# Altium integrated library PWM_Controllers.IntLib: 1 symbol
Pins are listed as number, name and electrical type; pins without a type are passive.

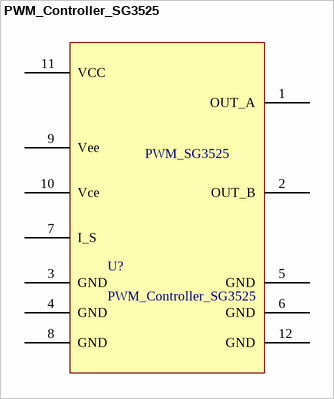
[diagram p0: symbol PWM_Controller_SG3525]

## PWM_Controller_SG3525
designator U?
footprint PWM_SG3525
pins: 1 OUT_A, 2 OUT_B, 3 GND, 4 GND, 5 GND, 6 GND, 7 I_S, 8 GND, 9 Vee, 10 Vce, 11 VCC, 12 GND
text: PWM_SG3525